# EAGLE library part RT424012 (library Display_Custom)
TE CONN DPDT Power Relay 8A 12V http://www.te.com/commerce/DocumentDelivery/DDEController?Action=srchrtrv&DocNm=RT2&DocType=DS&DocLang=English
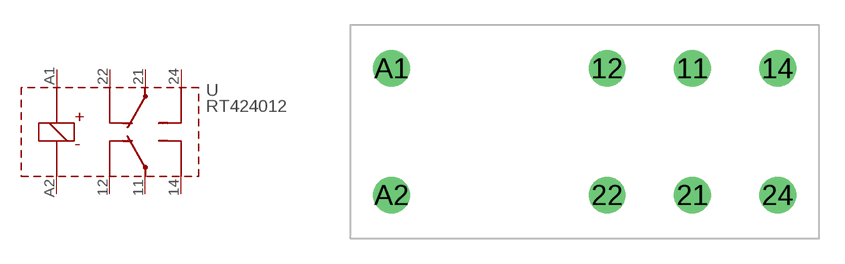
[diagram p11: symbol with the pads of TH_DPDT_GEN_PURPOSE_2.54; footprint TH_DPDT_GEN_PURPOSE_2.54]

Designator prefix -

## RT424012  [TH_DPDT_GEN_PURPOSE_2.54]
11  1_CENTER  pas
12  1_REST  pas
14  1_ACTIVE  pas
21  2_CENTER  pas
22  2_REST  pas
24  2_ACTIVE  pas
A1  COIL+
A2  COIL-

## Footprint TH_DPDT_GEN_PURPOSE_2.54 (pad centres in mm)
TE CONN general purpose low power PCB relays Power PCB Relay RT2 DC and AC (for global markets) http://www.te.com/commerce/DocumentDelivery/DDEController?Action=srchrtrv&DocNm=RT2&DocType=DS&DocLang=English
drill 1.45: 11 6.37,3.75; 12 1.33,3.75; 14 11.41,3.75; 21 6.37,-3.75; 22 1.33,-3.75; 24 11.41,-3.75; A1 -11.41,3.75; A2 -11.41,-3.75